# EAGLE library part IMS-G364 (library Transputers)
G364 Colour Video Controller INMOS Colour video controller Versions 85, 10, 11 and 135, Clock 85, 100, 110 and 135 Mhz respectively. Source: The Graphics Databook 1990. INMOS/SGS-Thomson Arto Kyyhkynen, artoky@dlc.fi
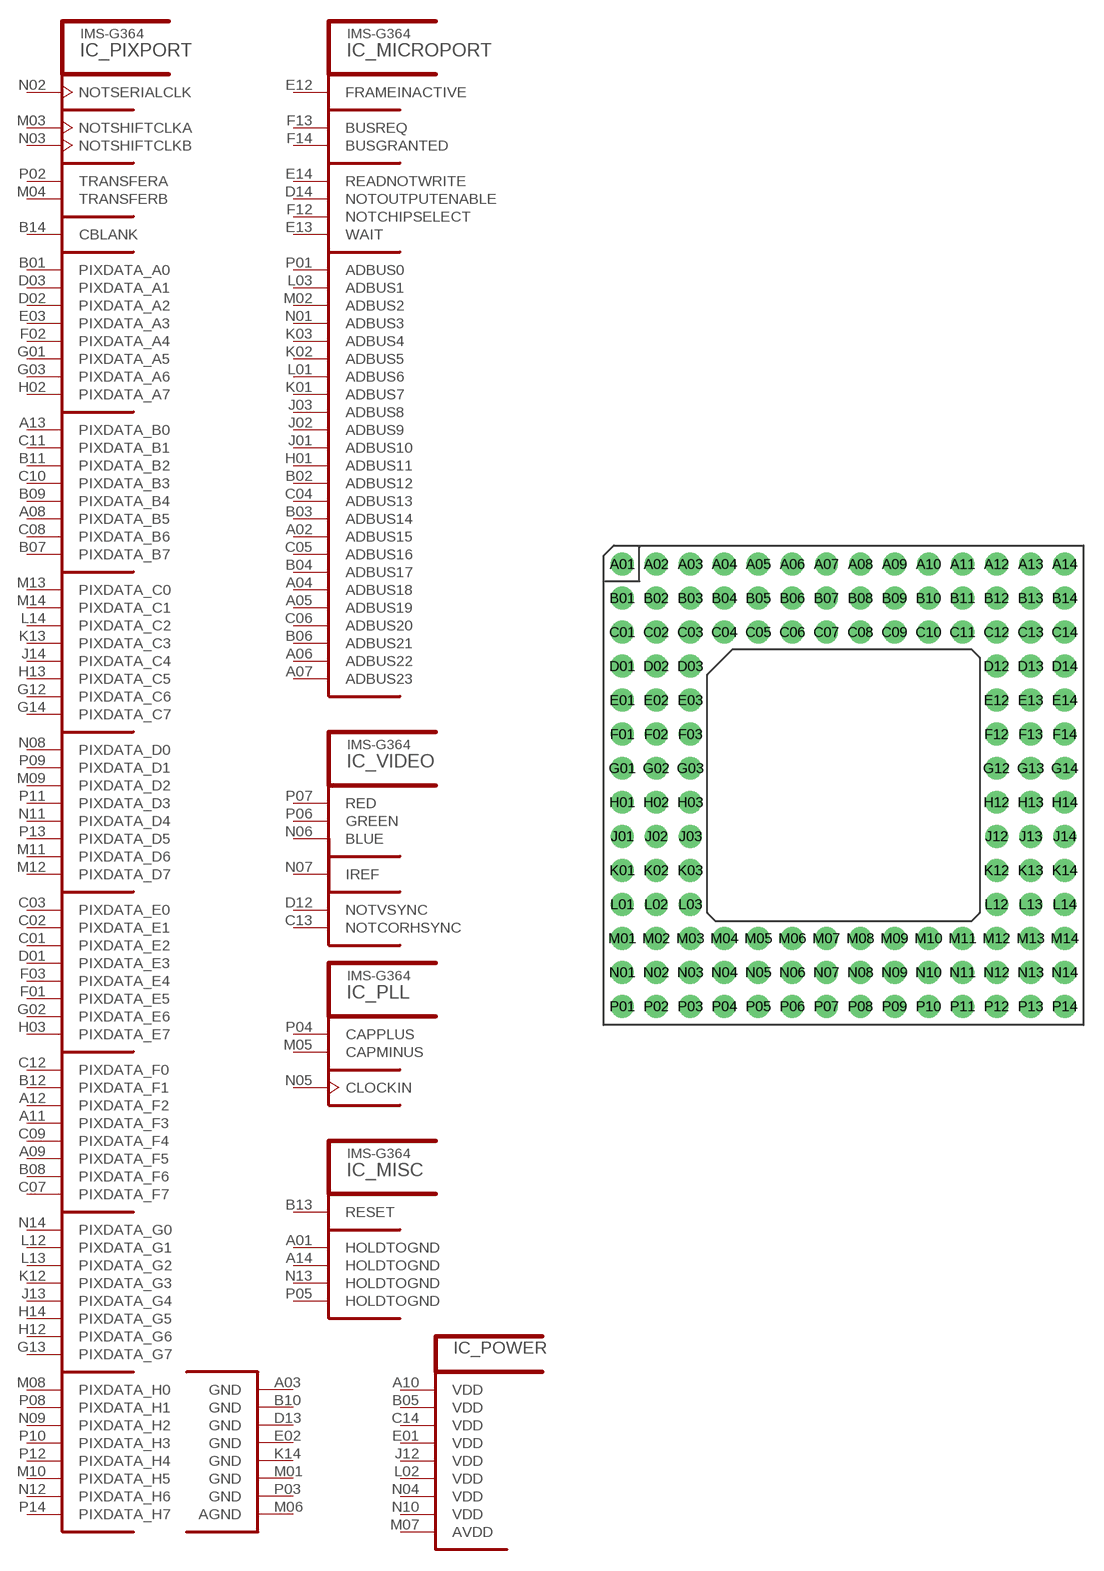
[diagram p27: symbol with the pads of MPGA132; footprint MPGA132]

Designator prefix IC; gates _MICROPORT=G332_MICROPORT _PLL=G332_PLL _VIDEO=G332_VIDEO _PIXPORT=G364_PIXPORT _MISC=G364_MISC _POWER=G364_SUP

## IMS-G364S10G, IMS-G364S11G, IMS-G364S135G, IMS-G364S85G  [MPGA132]
A01  _MISC:HOLDTOGND  pas
A02  _MICROPORT:ADBUS15
A03  _POWER:GND  pwr
A04  _MICROPORT:ADBUS18
A05  _MICROPORT:ADBUS19
A06  _MICROPORT:ADBUS22
A07  _MICROPORT:ADBUS23
A08  _PIXPORT:PIXDATA_B5  in
A09  _PIXPORT:PIXDATA_F5  in
A10  _POWER:VDD  pwr
A11  _PIXPORT:PIXDATA_F3  in
A12  _PIXPORT:PIXDATA_F2  in
A13  _PIXPORT:PIXDATA_B0  in
A14  _MISC:HOLDTOGND  pas
B01  _PIXPORT:PIXDATA_A0  in
B02  _MICROPORT:ADBUS12
B03  _MICROPORT:ADBUS14
B04  _MICROPORT:ADBUS17
B05  _POWER:VDD  pwr
B06  _MICROPORT:ADBUS21
B07  _PIXPORT:PIXDATA_B7  in
B08  _PIXPORT:PIXDATA_F6  in
B09  _PIXPORT:PIXDATA_B4  in
B10  _POWER:GND  pwr
B11  _PIXPORT:PIXDATA_B2  in
B12  _PIXPORT:PIXDATA_F1  in
B13  _MISC:RESET  in
B14  _PIXPORT:CBLANK
C01  _PIXPORT:PIXDATA_E2  in
C02  _PIXPORT:PIXDATA_E1  in
C03  _PIXPORT:PIXDATA_E0  in
C04  _MICROPORT:ADBUS13
C05  _MICROPORT:ADBUS16
C06  _MICROPORT:ADBUS20
C07  _PIXPORT:PIXDATA_F7  in
C08  _PIXPORT:PIXDATA_B6  in
C09  _PIXPORT:PIXDATA_F4  in
C10  _PIXPORT:PIXDATA_B3  in
C11  _PIXPORT:PIXDATA_B1  in
C12  _PIXPORT:PIXDATA_F0  in
C13  _VIDEO:NOTCORHSYNC
C14  _POWER:VDD  pwr
D01  _PIXPORT:PIXDATA_E3  in
D02  _PIXPORT:PIXDATA_A2  in
D03  _PIXPORT:PIXDATA_A1  in
D12  _VIDEO:NOTVSYNC
D13  _POWER:GND  pwr
D14  _MICROPORT:NOTOUTPUTENABLE  in
E01  _POWER:VDD  pwr
E02  _POWER:GND  pwr
E03  _PIXPORT:PIXDATA_A3  in
E12  _MICROPORT:FRAMEINACTIVE  out
E13  _MICROPORT:WAIT  out
E14  _MICROPORT:READNOTWRITE  in
F01  _PIXPORT:PIXDATA_E5  in
F02  _PIXPORT:PIXDATA_A4  in
F03  _PIXPORT:PIXDATA_E4  in
F12  _MICROPORT:NOTCHIPSELECT  in
F13  _MICROPORT:BUSREQ  out
F14  _MICROPORT:BUSGRANTED  in
G01  _PIXPORT:PIXDATA_A5  in
G02  _PIXPORT:PIXDATA_E6  in
G03  _PIXPORT:PIXDATA_A6  in
G12  _PIXPORT:PIXDATA_C6  in
G13  _PIXPORT:PIXDATA_G7  in
G14  _PIXPORT:PIXDATA_C7  in
H01  _MICROPORT:ADBUS11
H02  _PIXPORT:PIXDATA_A7  in
H03  _PIXPORT:PIXDATA_E7  in
H12  _PIXPORT:PIXDATA_G6  in
H13  _PIXPORT:PIXDATA_C5  in
H14  _PIXPORT:PIXDATA_G5  in
J01  _MICROPORT:ADBUS10
J02  _MICROPORT:ADBUS9
J03  _MICROPORT:ADBUS8
J12  _POWER:VDD  pwr
J13  _PIXPORT:PIXDATA_G4  in
J14  _PIXPORT:PIXDATA_C4  in
K01  _MICROPORT:ADBUS7
K02  _MICROPORT:ADBUS5
K03  _MICROPORT:ADBUS4
K12  _PIXPORT:PIXDATA_G3  in
K13  _PIXPORT:PIXDATA_C3  in
K14  _POWER:GND  pwr
L01  _MICROPORT:ADBUS6
L02  _POWER:VDD  pwr
L03  _MICROPORT:ADBUS1
L12  _PIXPORT:PIXDATA_G1  in
L13  _PIXPORT:PIXDATA_G2  in
L14  _PIXPORT:PIXDATA_C2  in
M01  _POWER:GND  pwr
M02  _MICROPORT:ADBUS2
M03  _PIXPORT:NOTSHIFTCLKA  out
M04  _PIXPORT:TRANSFERB  out
M05  _PLL:CAPMINUS  pas
M06  _POWER:AGND  pwr
M07  _POWER:AVDD  pwr
M08  _PIXPORT:PIXDATA_H0  in
M09  _PIXPORT:PIXDATA_D2  in
M10  _PIXPORT:PIXDATA_H5  in
M11  _PIXPORT:PIXDATA_D6  in
M12  _PIXPORT:PIXDATA_D7  in
M13  _PIXPORT:PIXDATA_C0  in
M14  _PIXPORT:PIXDATA_C1  in
N01  _MICROPORT:ADBUS3
N02  _PIXPORT:NOTSERIALCLK  out
N03  _PIXPORT:NOTSHIFTCLKB  out
N04  _POWER:VDD  pwr
N05  _PLL:CLOCKIN  in
N06  _VIDEO:BLUE  out
N07  _VIDEO:IREF  in
N08  _PIXPORT:PIXDATA_D0  in
N09  _PIXPORT:PIXDATA_H2  in
N10  _POWER:VDD  pwr
N11  _PIXPORT:PIXDATA_D4  in
N12  _PIXPORT:PIXDATA_H6  in
N13  _MISC:HOLDTOGND  pas
N14  _PIXPORT:PIXDATA_G0  in
P01  _MICROPORT:ADBUS0
P02  _PIXPORT:TRANSFERA  out
P03  _POWER:GND  pwr
P04  _PLL:CAPPLUS  pas
P05  _MISC:HOLDTOGND  pas
P06  _VIDEO:GREEN  out
P07  _VIDEO:RED  out
P08  _PIXPORT:PIXDATA_H1  in
P09  _PIXPORT:PIXDATA_D1  in
P10  _PIXPORT:PIXDATA_H3  in
P11  _PIXPORT:PIXDATA_D3  in
P12  _PIXPORT:PIXDATA_H4  in
P13  _PIXPORT:PIXDATA_D5  in
P14  _PIXPORT:PIXDATA_H7  in

## Footprint MPGA132 (pad centres in mm)
Micro Pin Grid Array
drill 1.143 pad 1.676 round: A01 -15.24,15.24; A02 -12.7,15.24; A03 -10.16,15.24; A04 -7.62,15.24; A05 -5.08,15.24; A06 -2.54,15.24; A07 0,15.24; A08 2.54,15.24; A09 5.08,15.24; A10 7.62,15.24; A11 10.16,15.24; A12 12.7,15.24; A13 15.24,15.24; A14 17.78,15.24; B01 -15.24,12.7; B02 -12.7,12.7; B03 -10.16,12.7; B04 -7.62,12.7; B05 -5.08,12.7; B06 -2.54,12.7; B07 0,12.7; B08 2.54,12.7; B09 5.08,12.7; B10 7.62,12.7; B11 10.16,12.7; B12 12.7,12.7; B13 15.24,12.7; B14 17.78,12.7; C01 -15.24,10.16; C02 -12.7,10.16; C03 -10.16,10.16; C04 -7.62,10.16; C05 -5.08,10.16; C06 -2.54,10.16; C07 0,10.16; C08 2.54,10.16; C09 5.08,10.16; C10 7.62,10.16; C11 10.16,10.16; C12 12.7,10.16; C13 15.24,10.16; C14 17.78,10.16; D01 -15.24,7.62; D02 -12.7,7.62; D03 -10.16,7.62; D12 12.7,7.62; D13 15.24,7.62; D14 17.78,7.62; E01 -15.24,5.08; E02 -12.7,5.08; E03 -10.16,5.08; E12 12.7,5.08; E13 15.24,5.08; E14 17.78,5.08; F01 -15.24,2.54; F02 -12.7,2.54; F03 -10.16,2.54; F12 12.7,2.54; F13 15.24,2.54; F14 17.78,2.54; G01 -15.24,0; G02 -12.7,0; G03 -10.16,0; G12 12.7,0; G13 15.24,0; G14 17.78,0; H01 -15.24,-2.54; H02 -12.7,-2.54; H03 -10.16,-2.54; H12 12.7,-2.54; H13 15.24,-2.54; H14 17.78,-2.54; J01 -15.24,-5.08; J02 -12.7,-5.08; J03 -10.16,-5.08; J12 12.7,-5.08; J13 15.24,-5.08; J14 17.78,-5.08; K01 -15.24,-7.62; K02 -12.7,-7.62; K03 -10.16,-7.62; K12 12.7,-7.62; K13 15.24,-7.62; K14 17.78,-7.62; L01 -15.24,-10.16; L02 -12.7,-10.16; L03 -10.16,-10.16; L12 12.7,-10.16; L13 15.24,-10.16; L14 17.78,-10.16; M01 -15.24,-12.7; M02 -12.7,-12.7; M03 -10.16,-12.7; M04 -7.62,-12.7; M05 -5.08,-12.7; M06 -2.54,-12.7; M07 0,-12.7; M08 2.54,-12.7; M09 5.08,-12.7; M10 7.62,-12.7; M11 10.16,-12.7; M12 12.7,-12.7; M13 15.24,-12.7; M14 17.78,-12.7; N01 -15.24,-15.24; N02 -12.7,-15.24; N03 -10.16,-15.24; N04 -7.62,-15.24; N05 -5.08,-15.24; N06 -2.54,-15.24; N07 0,-15.24; N08 2.54,-15.24; N09 5.08,-15.24; N10 7.62,-15.24; N11 10.16,-15.24; N12 12.7,-15.24; N13 15.24,-15.24; N14 17.78,-15.24; P01 -15.24,-17.78; P02 -12.7,-17.78; P03 -10.16,-17.78; P04 -7.62,-17.78; P05 -5.08,-17.78; P06 -2.54,-17.78; P07 0,-17.78; P08 2.54,-17.78; P09 5.08,-17.78; P10 7.62,-17.78; P11 10.16,-17.78; P12 12.7,-17.78; P13 15.24,-17.78; P14 17.78,-17.78